# EAGLE library part NHD-3.5-320240FT (library ExtraParts)
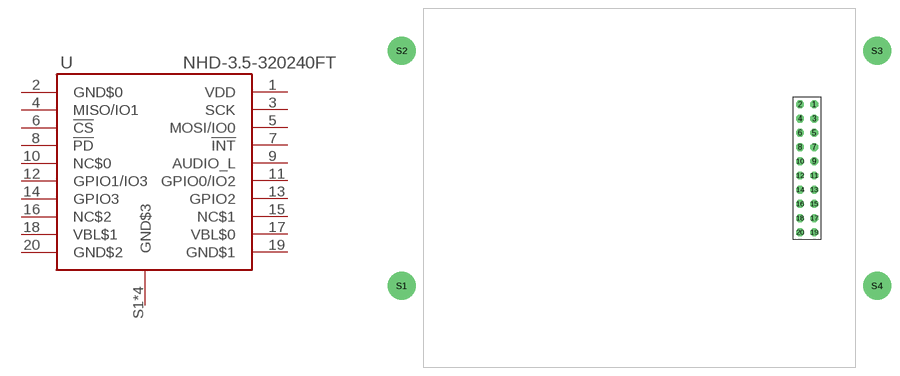
[diagram p1: symbol with the pads of NHD_DISPLAY_CONN; footprint NHD_DISPLAY_CONN]

Designator prefix -

## NHD-3.5-320240FT  [NHD_DISPLAY_CONN]
1  VDD  pwr
2  GND$0  pwr
3  SCK
4  MISO/IO1
5  MOSI/IO0
6  !CS
7  !INT
8  !PD
9  AUDIO_L
10  NC$0  nc
11  GPIO0/IO2
12  GPIO1/IO3
13  GPIO2
14  GPIO3
15  NC$1  nc
16  NC$2  nc
17  VBL$0  pwr
18  VBL$1  pwr
19  GND$1  pwr
20  GND$2  pwr
S1  GND$3  pwr
S2  GND$3  pwr
S3  GND$3  pwr
S4  GND$3  pwr

## Footprint NHD_DISPLAY_CONN (pad centres in mm)
FEMALE HEADER
drill 0.9 octagon: 1 69.67,46.88; 2 67.13,46.88; 3 69.67,44.34; 4 67.13,44.34; 5 69.67,41.8; 6 67.13,41.8; 7 69.67,39.26; 8 67.13,39.26; 9 69.67,36.72; 10 67.13,36.72; 11 69.67,34.18; 12 67.13,34.18; 13 69.67,31.64; 14 67.13,31.64; 15 69.67,29.1; 16 67.13,29.1; 17 69.67,26.56; 18 67.13,26.56; 19 69.67,24.02; 20 67.13,24.02
drill 3.5 pad 5: S1 -4,14.45; S2 -4,56.45; S3 80.9,56.45; S4 80.9,14.45